# EAGLE library part ULN2803A (library UNdarlingtony)
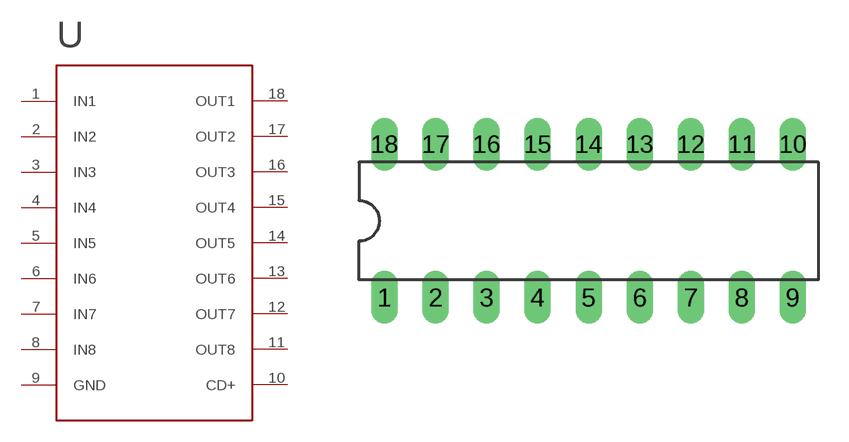
[diagram p0: symbol with the pads of DIL18; footprint DIL18]

Designator prefix -

## ULN2803A  [DIL18]
1  IN1
2  IN2
3  IN3
4  IN4
5  IN5
6  IN6
7  IN7
8  IN8
9  GND
10  CD+
11  OUT8
12  OUT7
13  OUT6
14  OUT5
15  OUT4
16  OUT3
17  OUT2
18  OUT1

## Footprint DIL18 (pad centres in mm)
Dual In Line Package
drill 0.813 long: 1 -10.16,-3.81; 2 -7.62,-3.81; 3 -5.08,-3.81; 4 -2.54,-3.81; 5 0,-3.81; 6 2.54,-3.81; 7 5.08,-3.81; 8 7.62,-3.81; 9 10.16,-3.81; 10 10.16,3.81; 11 7.62,3.81; 12 5.08,3.81; 13 2.54,3.81; 14 0,3.81; 15 -2.54,3.81; 16 -5.08,3.81; 17 -7.62,3.81; 18 -10.16,3.81